# Altium schematic symbol library Schlib1.SchLib: 2 symbols
Pins are listed as number, name and electrical type; pins without a type are passive.

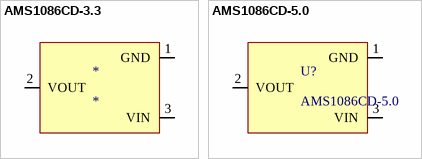
[diagram p0: symbols AMS1086CD-3.3 to AMS1086CD-5.0]

## AMS1086CD-3.3
designator *
footprint TO252 (252晶体管)
pins: 1 GND, 2 VOUT, 3 VIN

## AMS1086CD-5.0
designator U?
footprint TO252 (252晶体管)
pins: 1 GND, 2 VOUT, 3 VIN